# EAGLE library part BOB-08745 (library veter)
BOB-08745 - Breakout Sparkfun: Logic level converter from: https://www.sparkfun.com/products/8745
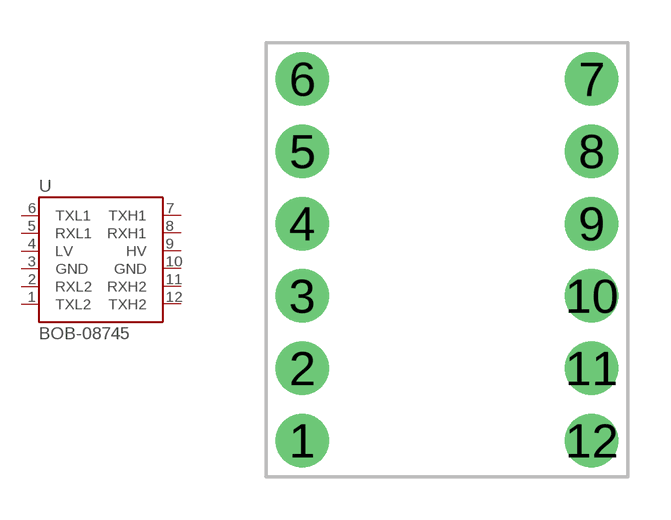
[diagram p4: symbol with the pads of BOB-08745-BREAKOUT; footprint BOB-08745-BREAKOUT]

Designator prefix -

## BOB-08745  [BOB-08745-BREAKOUT]
1  TXL2  in
2  RXL2  out
3  GND  pwr
4  LV  pwr
5  RXL1  out
6  TXL1  in
7  TXH1  out
8  RXH1  in
9  HV  pas
10  GND  pwr
11  RXH2  in
12  TXH2  out

## Footprint BOB-08745-BREAKOUT (pad centres in mm)
BOB-08745 - BREAKOUT
drill 1.016 pad 1.88: 1 -5.08,-6.35; 2 -5.08,-3.81; 3 -5.08,-1.27; 4 -5.08,1.27; 5 -5.08,3.81; 6 -5.08,6.35; 7 5.08,6.35; 8 5.08,3.81; 9 5.08,1.27; 10 5.08,-1.27; 11 5.08,-3.81; 12 5.08,-6.35